# Altium footprint library DF51K-12DP-2DS(805).PcbLib: 1 footprints
Each footprint in its own frame and in the unit in brackets; x right, y up, seen from the top. Pads: shape width x height; smd on the part's side, far side on the other; paste and mask are expansions set on the pad; w line width, h text height; cw(c..) or ccw(c..) is an arc to the next point about the centre after c.
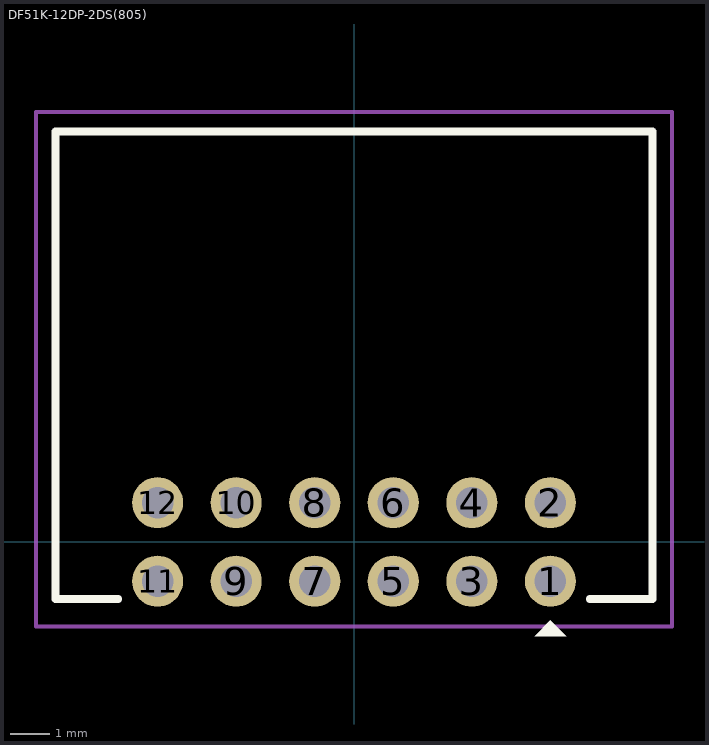
[diagram p0: the footprint, top view; thin cyan lines are the x and y axes]

## DF51K-12DP-2DS(805) [mm]
pads (12):
  round 1.3 hole 0.8: 1(5,-1) 2(5,1) 3(3,-1) 4(3,1) 5(1,-1) 6(1,1) 7(-1,-1) 8(-1,1) 9(-3,-1) 10(-3,1) 11(-5,-1) 12(-5,1)
Top Overlay:
  region: 5.4,-2.4 4.6,-2.4 5,-2
  lines w0.2: -6,-1.45 -7.6,-1.45 -7.6,10.45 7.6,10.45 7.6,-1.45 6,-1.45
Top Courtyard:
  lines w0.1: -8.1,-2.15 -5.025,-2.15 8.1,-2.15 8.1,10.95 -8.1,10.95 -8.1,-2.15
3D body "DF51K-12DP-2DS(805)--3DModel-STEP-1.STEP": height 8.79, standoff -2.96, extent -7.6,-1.451 7.6,10.449